# EAGLE library part PCM4204 (library mytexas)
High-Performance 24-Bit, 216kHz Sampling Four-Channel Audio-to-Digital Converter Auto generated by make-symbol-device-package-bsdl.ulp Rev. 29 Source: http://focus.ti.com/lit/ds/symlink/pcm4204.pdf
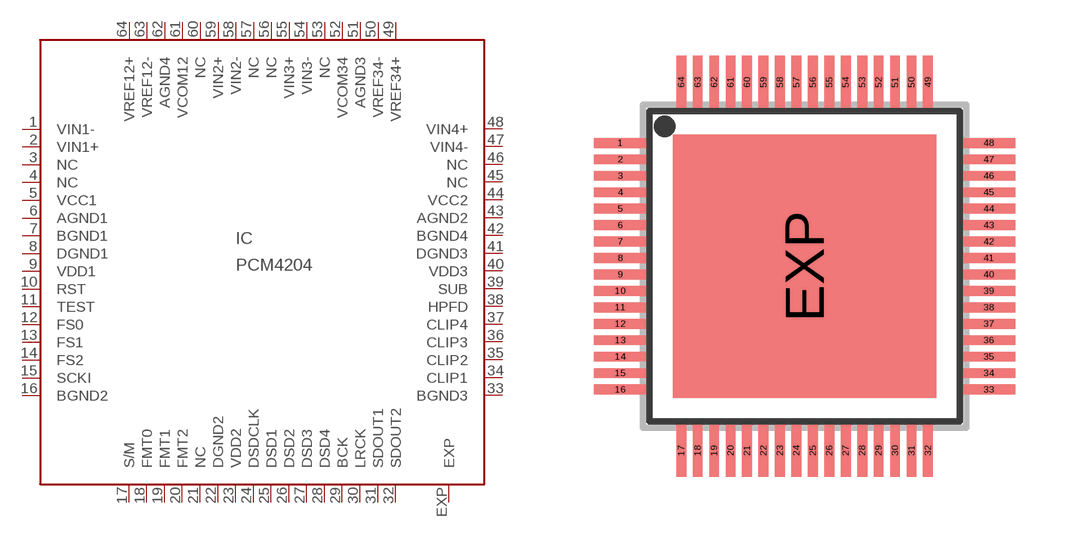
[diagram p93: symbol with the pads of PAP_S-PQFP-G64; footprint PAP_S-PQFP-G64]

Designator prefix IC

## PCM4204  [PAP_S-PQFP-G64]
1  VIN1-  in
2  VIN1+  in
3  NC  nc
4  NC  nc
5  VCC1  pwr
6  AGND1  pwr
7  BGND1  pwr
8  DGND1  pwr
9  VDD1  pwr
10  RST  in
11  TEST  in
12  FS0  in
13  FS1  in
14  FS2  in
15  SCKI  in
16  BGND2  pwr
17  S/M  in
18  FMT0  in
19  FMT1  in
20  FMT2  in
21  NC  nc
22  DGND2  pwr
23  VDD2  pwr
24  DSDCLK
25  DSD1
26  DSD2
27  DSD3
28  DSD4
29  BCK
30  LRCK
31  SDOUT1  out
32  SDOUT2  out
33  BGND3  pwr
34  CLIP1  out
35  CLIP2  out
36  CLIP3  out
37  CLIP4  out
38  HPFD  in
39  SUB  in
40  VDD3  pwr
41  DGND3  pwr
42  BGND4  pwr
43  AGND2  pwr
44  VCC2  pwr
45  NC  nc
46  NC  nc
47  VIN4-  in
48  VIN4+  in
49  VREF34+  out
50  VREF34-  out
51  AGND3  out
52  VCOM34  out
53  NC  nc
54  VIN3-  in
55  VIN3+  in
56  NC  nc
57  NC  nc
58  VIN2-  in
59  VIN2+  in
60  NC  nc
61  VCOM12  out
62  AGND4  pwr
63  VREF12-  out
64  VREF12+  out
EXP  EXP  out

## Footprint PAP_S-PQFP-G64 (pad centres in mm)
PAP (S-PQFP-G64) PowerPAD (TM) Source: http://focus.ti.com/lit/ds/symlink/pcm4204.pdf
smd 1.6 x 0.3: 1 -5.6,3.75; 2 -5.6,3.25; 3 -5.6,2.75; 4 -5.6,2.25; 5 -5.6,1.75; 6 -5.6,1.25; 7 -5.6,0.75; 8 -5.6,0.25; 9 -5.6,-0.25; 10 -5.6,-0.75; 11 -5.6,-1.25; 12 -5.6,-1.75; 13 -5.6,-2.25; 14 -5.6,-2.75; 15 -5.6,-3.25; 16 -5.6,-3.75; 33 5.6,-3.75; 34 5.6,-3.25; 35 5.6,-2.75; 36 5.6,-2.25; 37 5.6,-1.75; 38 5.6,-1.25; 39 5.6,-0.75; 40 5.6,-0.25; 41 5.6,0.25; 42 5.6,0.75; 43 5.6,1.25; 44 5.6,1.75; 45 5.6,2.25; 46 5.6,2.75; 47 5.6,3.25; 48 5.6,3.75
smd 0.3 x 1.6: 17 -3.75,-5.6; 18 -3.25,-5.6; 19 -2.75,-5.6; 20 -2.25,-5.6; 21 -1.75,-5.6; 22 -1.25,-5.6; 23 -0.75,-5.6; 24 -0.25,-5.6; 25 0.25,-5.6; 26 0.75,-5.6; 27 1.25,-5.6; 28 1.75,-5.6; 29 2.25,-5.6; 30 2.75,-5.6; 31 3.25,-5.6; 32 3.75,-5.6; 49 3.75,5.6; 50 3.25,5.6; 51 2.75,5.6; 52 2.25,5.6; 53 1.75,5.6; 54 1.25,5.6; 55 0.75,5.6; 56 0.25,5.6; 57 -0.25,5.6; 58 -0.75,5.6; 59 -1.25,5.6; 60 -1.75,5.6; 61 -2.25,5.6; 62 -2.75,5.6; 63 -3.25,5.6; 64 -3.75,5.6
smd 8 x 8: EXP 0,0